# Altium schematic symbol library HOLD_SIZE_3mm.SchLib: 1 symbol
Pins are listed as number, name and electrical type; pins without a type are passive.

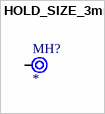
[diagram p0: symbol HOLD_SIZE_3mm]

## HOLD_SIZE_3mm
designator MH?  (no BOM)
footprint HOLE_3mm
pins: MH 1